# Altium schematic symbol library AnalogDevices.SchLib: 130 symbols (part 3 of 5)
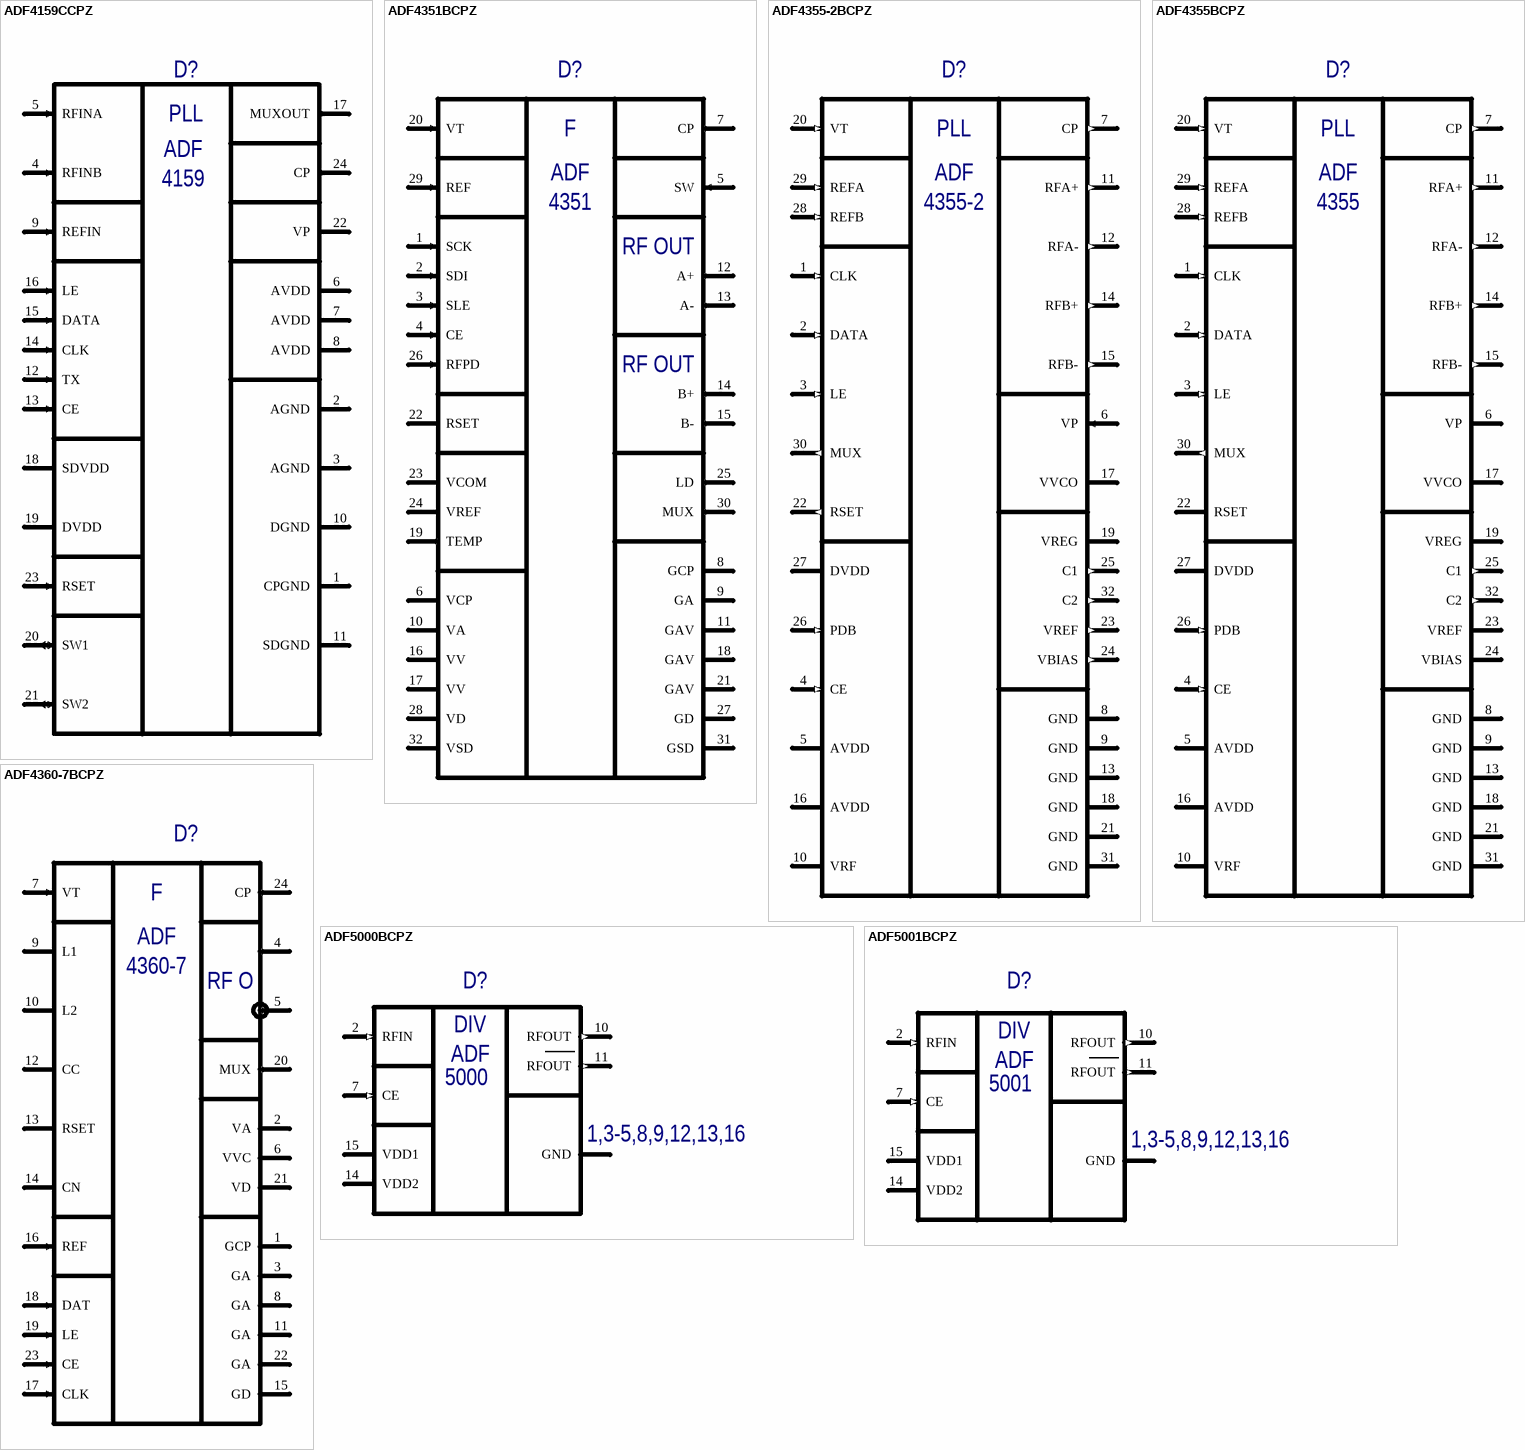
[diagram p23: symbols ADF4159CCPZ to ADF5001BCPZ]

## ADF4159CCPZ
designator D?  (value not drawn)
13 GHz, Fractional-N Frequency Synthesizer; Manufacturer: Analog Devices; Type: Микросхема; SymAuthor: Юдин Д.Г.; BCPId: *; Package: CP-24-10; ManufacturerPartNumber: ADF4159CCPZ
footprint QFN50P400X400X100-25N (QFN, 24-Leads, Body 4,00x4,00mm, Pitch 0,50mm, Thermal Pad 2.45x2.45mm, IPC Medium Density)
pins: 1 CPGND (power) "CP GND", 2 AGND (power) "Analog GND", 3 AGND (power) "Analog GND", 4 RFINB (in), 5 RFINA (in), 6 AVDD (power) "Analog Power Supply", 7 AVDD (power) "Analog Power Supply", 8 AVDD (power) "Analog Power Supply", 9 REFIN (in) "Reference Input. This is a CMOS input with a nominal threshold of DVDD/2 and a dc equivalent input   resistance of 100 kΩ", 10 DGND (power) "Digital GND", 11 SDGND (power) "SD GND", 12 TX (in) "TX data", 13 CE (in) "Chip enable", 14 CLK (in) "Serial Clock Input", 15 DATA (in) "Serial Data Input", 16 LE (in) "Load Enable", 17 MUXOUT (out) "This multiplexer output allows either the lock detect, the scaled RF, or the scaled reference frequency to be   accessed externally.", 18 SDVDD (power) "SDVdd", 19 DVDD (power) "Digital Power Supply", 20 SW1 (io) "Switches for Fast Lock", 21 SW2 (io) "Switches for Fast Lock", 22 VP (power) "Charge Pump Power Supply.", 23 RSET (in) "Rset", 24 CP (out) "Charge Pump Output. When enabled, this provides ±ICP to the external loop filter, which in turn drives the   external VCO.", EPAD (power) hidden to GND "Exposed Pad. The exposed pad must be connected to GND."
text: PLL; ADF; 4159

## ADF4351BCPZ
designator D?  (value not drawn)
Wideband Synthesizer with Integrated VCO; Manufacturer: Analog Devices; Type: Микросхема; BCPId: *; Name: *; Package: CP-32-2; ManufacturerPartNumber: ADF4351BCPZ; HelpURL: *; Price: *; Rem: *; TU/GOST: *
footprint QFN50P500X500X100-32N+325x325 (QFN, 32-Leads, Body 5,0x5,0mm (max), Pitch 0,50mm, IPC Medium Density with thermal tab 3.25x3.25)
pins: 1 SCK (in) "Serial Clock Signal", 2 SDI (in) "Serial Data In", 3 SLE (in) "Load Enable", 4 CE (in) "Chip Enable", 5 SW (in) "Fast Lock Switch", 6 VCP (power) "Charge Pump Power Supply", 7 CP (out) "Charge Pump Output", 8 GCP (power) "Charge Pump Ground", 9 GA (power) "Analog Ground", 10 VA (power) "Analog Power Supply", 11 GAV (power) "VCO Analog Ground", 12 A+ (out) "VCO Output", 13 A- (out) "VCO Output", 14 B+ (out) "Auxiliary VCO Output", 15 B- (out) "Auxiliary VCO Output", 16 VV (power) "Power Supply for the VCO", 17 VV (power) "Power Supply for the VCO", 18 GAV (power) "VCO Analog Ground", 19 TEMP (out) "Temperature Compensation Output", 20 VT (in) "Control Input to the VCO", 21 GAV (power) "VCO Analog Ground", 22 RSET "Connecting a resistor between this pin and ground sets the charge pump output current", 23 VCOM "Internal Compensation Node", 24 VREF "Reference Voltage", 25 LD (out) "Lock Detect Output Pin", 26 RFPD (in) "RF Power-Down", 27 GD (power) "Digital Ground", 28 VD (power) "Digital Power Supply", 29 REF (in) "Reference Input", 30 MUX (out) "Multiplexer Output", 31 GSD (power) "Digital sigma-delta modulator ground", 32 VSD (power) "Power Supply Pin for the Digital sigma-delta Modulator", EPAD GND (power) hidden to GND "The exposed die pad must be connected to GND"
text: F; ADF; 4351; RF OUT

## ADF4355-2BCPZ
designator D?  (value not drawn)
Wideband Synthesizer with Integrated VCO 54 MHz to 4400 MHz; Manufacturer: Analog Devices; Type: Микросхема; SymAuthor: Гордиенко А.; BCPId: *; Name: *; Package: CP-32-12; ManufacturerPartNumber: ADF4355-2BCPZ; HelpURL: *; Price: *; Rem: *; TU/GOST: *
footprint QFN50P500X500X80-33N (QFN, 32-Leads, Body 5,00x5,00mm, Pitch 0,50mm, Thermal Pad 3,75x3,75mm, IPC Medium Density)
pins: 1 CLK (in) "Serial Clock Input", 2 DATA (in) "Serial Data Input", 3 LE (in) "Load Enable, CMOS Input", 4 CE (in) "Chip Enable", 5 AVDD (power) "Analog Power Supply", 6 VP (in) "Charge Pump Power Supply", 7 CP (out) "Charge Pump Output", 8 GND (power) "Charge Pump Ground", 9 GND (power) "Analog Ground", 10 VRF (power) "Power Supply for the RF Output", 11 RFA+ (out) "VCO Output", 12 RFA- (out) "Complementary VCO Output", 13 GND (power) "RF Output Stage Ground", 14 RFB+ (out) "Auxiliary VCO Output", 15 RFB- (out) "Complementary Auxiliary VCO Output", 16 AVDD (power) "Analog Power Supply", 17 VVCO (power) "Power Supply for the VCO", 18 GND (power) "VCO Ground", 19 VREG "VCO Compensation Node", 20 VT (in) "Control Input to the VCO", 21 GND (power) "VCO Ground", 22 RSET (out) "Bias Current Resistor", 23 VREF (out) "Internal Compensation Node", 24 VBIAS (out) "Reference Voltage", 25 C1 (out) "Outputs from the LDO Regulator", 26 PDB (in) "RF Power-Down", 27 DVDD (power) "Digital Power Supply", 28 REFB (in) "Complementary Reference Input", 29 REFA (in) "Reference Input", 30 MUX (out) "Multiplexer Output", 31 GND (power) "Digital Σ-Δ Modulator Ground", 32 C2 (out) "Outputs from the LDO Regulator", EPAD GND (power) hidden to GND "Exposed Pad"
text: PLL; ADF; 4355-2

## ADF4355BCPZ
designator D?  (value not drawn)
Wideband Synthesizer with Integrated VCO 54 MHz to 6800 MHz; Manufacturer: Analog Devices; Type: Микросхема; BCPId: *; Name: *; Package: CP-32-12; ManufacturerPartNumber: ADF4355BCPZ; HelpURL: *; Price: *; Rem: *; TU/GOST: *
footprint QFN50P500X500X80-33N (QFN, 32-Leads, Body 5,00x5,00mm, Pitch 0,50mm, Thermal Pad 3,75x3,75mm, IPC Medium Density)
pins: 1 CLK (in) "Serial Clock Input", 2 DATA (in) "Serial Data Input", 3 LE (in) "Load Enable, CMOS Input", 4 CE (in) "Chip Enable", 5 AVDD (power) "Analog Power Supply", 6 VP (power) "Charge Pump Power Supply", 7 CP (out) "Charge Pump Output", 8 GND (power) "Charge Pump Ground", 9 GND (power) "Analog Ground", 10 VRF (power) "Power Supply for the RF Output", 11 RFA+ (out) "VCO Output", 12 RFA- (out) "Complementary VCO Output", 13 GND (power) "RF Output Stage Ground", 14 RFB+ (out) "Auxiliary VCO Output", 15 RFB- (out) "Complementary Auxiliary VCO Output", 16 AVDD (power) "Analog Power Supply", 17 VVCO (power) "Power Supply for the VCO", 18 GND (power) "VCO Ground", 19 VREG "VCO Compensation Node", 20 VT (in) "Control Input to the VCO", 21 GND (power) "VCO Ground", 22 RSET "Bias Current Resistor", 23 VREF "Internal Compensation Node", 24 VBIAS "Reference Voltage", 25 C1 (out) "Outputs from the LDO Regulator", 26 PDB (in) "RF Power-Down", 27 DVDD (power) "Digital Power Supply", 28 REFB (in) "Complementary Reference Input", 29 REFA (in) "Reference Input", 30 MUX (out) "Multiplexer Output", 31 GND (power) "Digital Σ-Δ Modulator Ground", 32 C2 (out) "Outputs from the LDO Regulator", EPAD GND (power) hidden to GND "Exposed Pad"
text: PLL; ADF; 4355

## ADF4360-7BCPZ
designator D?  (value not drawn)
Wideband Synthesizer with Integrated VCO; Manufacturer: Analog Devices; Type: Микросхема; BCPId: *; Name: *; Package: CP-24-2; ManufacturerPartNumber: ADF4360-7BCPZ; HelpURL: *; Price: *; Rem: *; TU/GOST: *
footprint QFN50P400X400X100-25N (QFN, 24-Leads, Body 4,00x4,00mm, Pitch 0,50mm, Thermal Pad 0,30x0,90mm, IPC Medium Density)
pins: 1 GCP (power) "Charge Pump Ground", 2 VA (power) "Analog Power Supply", 3 GA (power) "Analog Ground", 4 A (out) "VCO Output", 5 B (out) "VCO Complementary Output", 6 VVC (power) "Power Supply for the VCO", 7 VT (in) "Control Input to the VCO", 8 GA (power) "VCO Analog Ground", 9 L1 "An external inductor", 10 L2 "An external inductor", 11 GA (power) "Analog Ground", 12 CC "Internal Compensation Node", 13 RSET "Charge pump output current Rset", 14 CN "Internal Compensation Node", 15 GD (power) "Digital Ground", 16 REF (in) "Reference Input", 17 CLK (in) "Serial Clock Signal", 18 DAT (in) "Serial Data In", 19 LE (in) "Load Enable", 20 MUX (out) "Multiplexer Output", 21 VD (power) "Digital Power Supply", 22 GA (power) "Analog Ground", 23 CE (in) "Chip Enable", 24 CP (out) "Charge Pump Output", EPAD GND (power) hidden to GND "The exposed die pad must be connected to GND"
text: F; ADF; 4360-7; RF O

## ADF5000BCPZ
designator D?  (value not drawn)
4 GHz to 18 GHz   Divide-by-2 Prescaler; Manufacturer*: Analog Devices; Type: Микросхема; BCPId: *; ManufacturerPartNumber: ADF5000BCPZ; Package: CP-16-18
footprint QFN50P300X300X80_HS160x160-17N (QFN, 16-Leads, Body 3,00x3,00mm, Pitch 0,50mm, Thermal Pad 1,60x1,60mm, IPC Medium Density)
pins: 1 GND (power), 2 RFIN (in) "RF input", 3 GND (power) hidden to GND, 4 GND (power) hidden to GND, 5 GND (power) hidden to GND, 6 NC hidden, 7 CE (in) "Chip Enable", 8 GND (power) hidden to GND, 9 GND (power) hidden to GND, 10 RFOUT (out) "Divided output", 11 RFOUT (out) "Divided output 180°", 12 GND (power) hidden to GND, 13 GND (power) hidden to GND, 14 VDD2 (power) "VDD", 15 VDD1 (power) "VDD", 16 GND (power) hidden to GND, EPAD GND (power) hidden to GND "Ground paddle"
text: DIV; ADF; 5000; 1,3-5,8,9,12,13,16

## ADF5001BCPZ
designator D?  (value not drawn)
4 GHz to 18 GHz Divide-by-4 Prescaler; Manufacturer: Analog Devices; Type: Микросхема; BCPId: *; ManufacturerPartNumber: ADF5001BCPZ; Name: *; Package: CP-16-18
footprint QFN50P300X300X80_HS160x160-17N (QFN, 16-Leads, Body 3,00x3,00mm, Pitch 0,50mm, Thermal Pad 1,60x1,60mm, IPC Medium Density)
pins: 1 GND (power), 2 RFIN (in) "RF input", 6 NC (in) hidden "No Connect. This pin can be left unconnected.", 7 CE (in) "Chip Enable", 10 RFOUT (out) "Divided output", 11 RFOUT (out) "Divided output 180°", 14 VDD2 (power) "VDD", 15 VDD1 (power) "VDD", EPAD (power) hidden to GND
text: DIV; ADF; 5001; 1,3-5,8,9,12,13,16

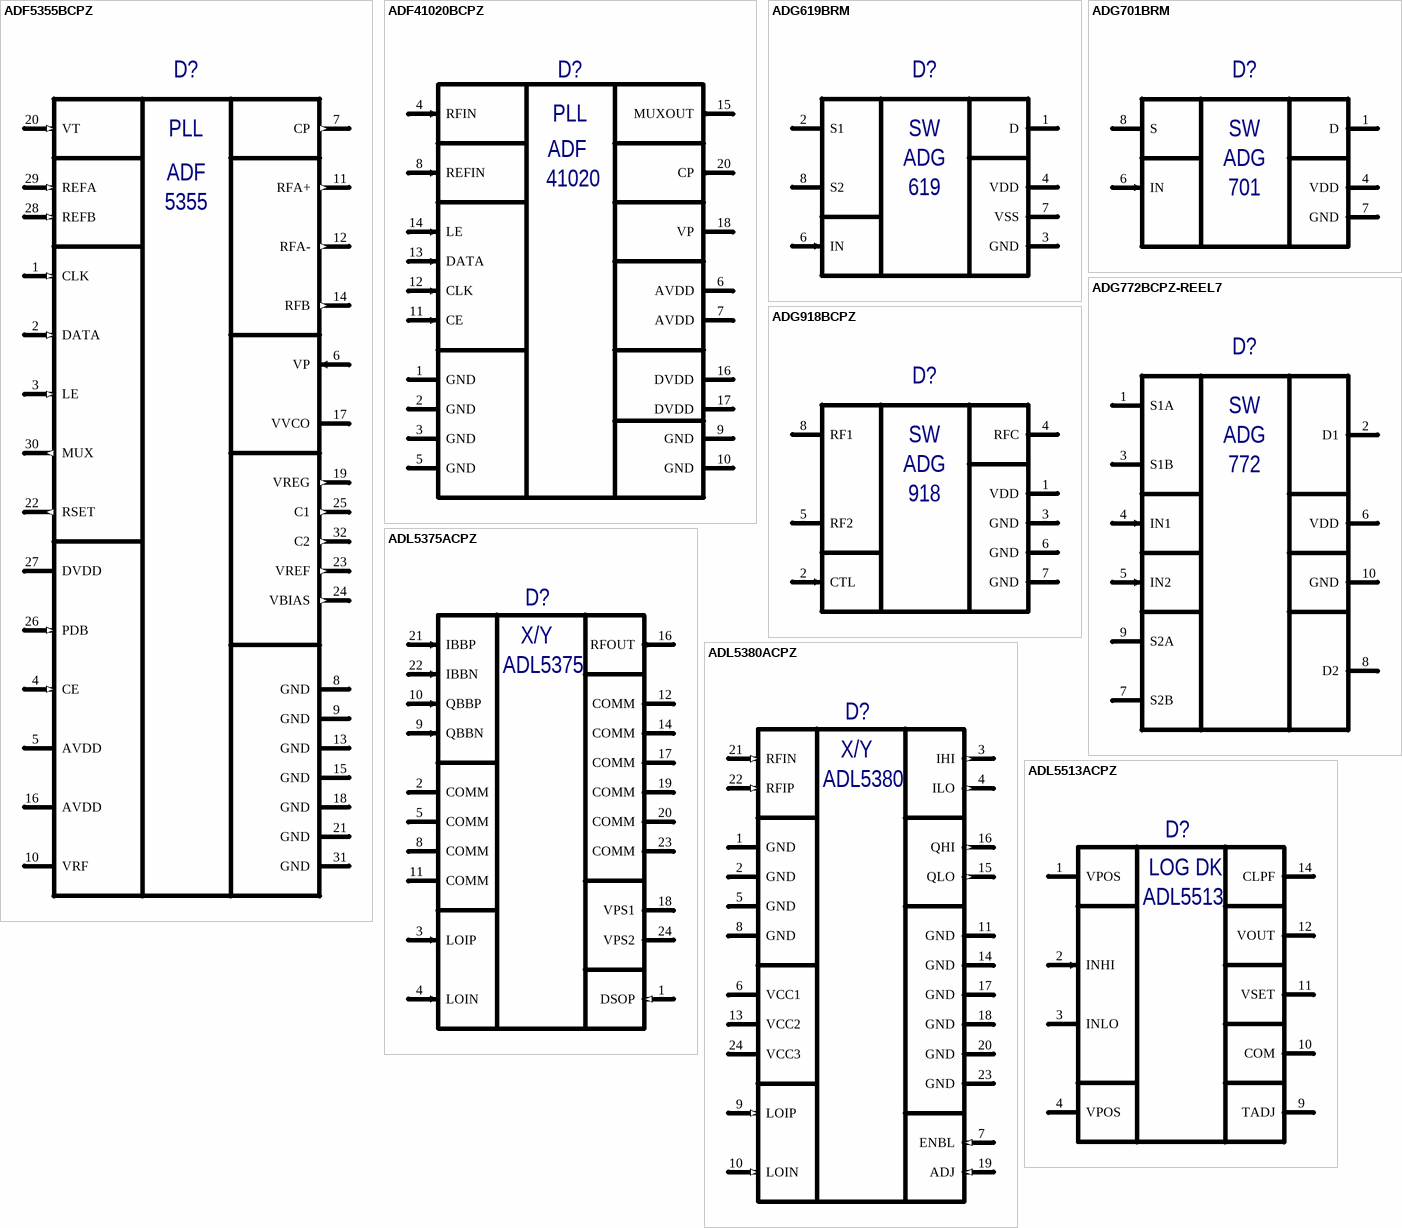
[diagram p11: symbols ADF5355BCPZ to ADL5513ACPZ]

## ADF5355BCPZ
designator D?  (value not drawn)
Microwave Wideband Synthesizer   with Integrated VCO 54 MHz to 13600 MHz; Manufacturer: Analog Devices; Type: Микросхема; BCPId: *; Name: *; Package: CP-32-12; ManufacturerPartNumber: ADF5355BCPZ; HelpURL: *; Price: *; Rem: *; TU/GOST: *
footprint QFN50P500X500X80-33N (QFN, 32-Leads, Body 5,00x5,00mm, Pitch 0,50mm, Thermal Pad 3,75x3,75mm, IPC Medium Density)
pins: 1 CLK (in) "Serial Clock Input", 2 DATA (in) "Serial Data Input", 3 LE (in) "Load Enable, CMOS Input", 4 CE (in) "Chip Enable", 5 AVDD (power) "Analog Power Supply", 6 VP (in) "Charge Pump Power Supply", 7 CP (out) "Charge Pump Output", 8 GND (power) "Charge Pump Ground", 9 GND (power) "Analog Ground", 10 VRF (power) "Power Supply for the RF Output", 11 RFA+ (out) "VCO Output", 12 RFA- (out) "Complementary VCO Output", 13 GND (power) "RF Output Stage Ground", 14 RFB (out) "Auxiliary VCO Output", 15 GND (power) "RF Output Stage Ground", 16 AVDD (power) "Analog Power Supply", 17 VVCO (power) "Power Supply for the VCO", 18 GND (power) "VCO Ground", 19 VREG (out) "VCO Compensation Node", 20 VT (in) "Control Input to the VCO", 21 GND (power) "VCO Ground", 22 RSET (out) "Bias Current Resistor", 23 VREF (out) "Internal Compensation Node", 24 VBIAS (out) "Reference Voltage", 25 C1 (out) "Outputs from the LDO Regulator", 26 PDB (in) "RF Power-Down", 27 DVDD (power) "Digital Power Supply", 28 REFB (in) "Complementary Reference Input", 29 REFA (in) "Reference Input", 30 MUX (out) "Multiplexer Output", 31 GND (power) "Digital Σ-Δ Modulator Ground", 32 C2 (out) "Outputs from the LDO Regulator", EPAD GND (power) hidden to GND "Exposed Pad"
text: PLL; ADF; 5355

## ADF41020BCPZ
designator D?  (value not drawn)
18 GHz Microwave PLL Synthesizer; Manufacturer: Analog Devices; Type: Микросхема; BCPId: *; Name: *; Package: CP-20-6; ManufacturerPartNumber: ADF41020BCPZ
footprint QFN50P400X400X100-20N (QFN, 20-Leads, Body 4,0x4,0mm (max), Pitch 0,50mm, IPC Medium Density)
pins: 1 GND (power) "Ground Pins", 2 GND (power) "Ground Pins", 3 GND (power) "Ground Pins", 4 RFIN (in) "Input to the RF Prescaler. This input is ac-coupled internally.", 5 GND (power) "Ground Pins", 6 AVDD (power) "Analog Power Supply", 7 AVDD (power) "Analog Power Supply", 8 REFIN (in) "Reference Input. This is a CMOS input with a nominal threshold of DVDD/2 and a dc equivalent input   resistance of 100 kΩ", 9 GND (power) "Ground Pins", 10 GND (power) "Ground Pins", 11 CE (in) "Chip Enable", 12 CLK (in) "Serial Clock Input", 13 DATA (in) "Serial Data Input", 14 LE (in) "Load Enable", 15 MUXOUT (out) "This multiplexer output allows either the lock detect, the scaled RF, or the scaled reference frequency to be   accessed externally.", 16 DVDD (power) "Digital Power Supply", 17 DVDD (power) "Digital Power Supply", 18 VP (power) "Charge Pump Power Supply.", 20 CP (out) "Charge Pump Output. When enabled, this provides ±ICP to the external loop filter, which in turn drives the   external VCO.", EPAD (power) hidden to GND "Exposed Pad. The exposed pad must be connected to GND."
text: PLL; ADF; 41020

## ADG619BRM
designator D?  (value not drawn)
Single SPDT Switch; Manufacturer: Analog Devices; Type: Микросхема; BCPId: *; Name: *; Package: RM-8; ManufacturerPartNumber: ADG619BRM
footprint TSOP65P490X110-8N (Shrink Small Outline; 8 Leads; Body Width 3 mm; Pitch 0.65 mm)
pins: 1 D, 2 S1, 3 GND (power), 4 VDD (power), 6 IN (in), 7 VSS (power), 8 S2
text: SW; ADG; 619

## ADG701BRM
designator D?  (value not drawn)
Single SPST Switch; Manufacturer: Analog Devices; Type: Микросхема; BCPId: *; Name: *; Package: RM-8; ManufacturerPartNumber: ADG701BRM
footprint TSOP65P490X110-8N (Shrink Small Outline; 8 Leads; Body Width 3 mm; Pitch 0.65 mm)
pins: 1 D "Drain Terminal. Can be an input or output.", 4 VDD (power) "Most Positive Power Supply Potential.", 6 IN (in) "Logic Control Input.", 7 GND (power) "Ground (0 V) Reference.", 8 S "Source Terminal. Can be an input or output."
text: SW; ADG; 701

## ADG772BCPZ-REEL7
designator D?  (value not drawn)
Single SPST Switch; Manufacturer: Analog Devices; Type: Микросхема; BCPId: *; Name: *; Package: CP-10-10; ManufacturerPartNumber: ADG772BCPZ-REEL7
footprint QFN40P130X160X60-10N (QFN, 10-Leads, Body 1,30x1,60mm, Pitch 0,40mm, IPC Medium Density)
pins: 1 S1A "Source Terminal. Can be an input or output.", 2 D1 "Drain Terminal. Can be an input or output.", 3 S1B "Source Terminal. Can be an input or output.", 4 IN1 (in) "Logic Control Input.", 5 IN2 (in) "Logic Control Input.", 6 VDD (power) "Most Positive Power Supply Potential.", 7 S2B "Source Terminal. Can be an input or output.", 8 D2 "Drain Terminal. Can be an input or output.", 9 S2A "Source Terminal. Can be an input or output.", 10 GND (power) "Ground (0 V) Reference."
text: SW; ADG; 772

## ADG918BCPZ
designator D?  (value not drawn)
Wideband 4 GHz 2:1 Mux/SPDT; Manufacturer: Analog Devices; Type: Микросхема; BCPId: *; Name: *; Package: CP-8-2; ManufacturerPartNumber: ADG918BCPZ
footprint SON50P300X300X90-9N (SON, 8-Leads, Body 3,0x3,0mm (max), Pitch 0,50mm, IPC Medium Density)
pins: 1 VDD (power) "VDD +1.65...2.75 V Power supply", 2 CTL (in) "Logic control input", 3 GND (power), 4 RFC "COMMON RF Port for Switch", 5 RF2 "RF2 port", 6 GND (power), 7 GND (power), 8 RF1 "RF1 port", 9 GND hidden to GND
text: SW; ADG; 918

## ADL5375ACPZ
designator D?  (value not drawn)
400 MHz to 6 GHz Broadband Quadrature Modulator; Manufacturer: Analog Devices; Type: Микросхема; BCPId: *; Name: *; Package: CP-24-3; ManufacturerPartNumber: ADL5375ACPZ; HelpURL: *; Price: *; Rem: *; TU/GOST: *
footprint QFN50P400X400X100_HS280x280-25N (QFN, 24-Leads, Body 4,00x4,00mm, Pitch 0,50mm, Thermal Pad 2,80x2,80mm, IPC Medium Density)
pins: 1 DSOP (in), 2 COMM (power) "Input Common Pins. Connect to ground", 3 LOIP (in) "Local Oscillator Input", 4 LOIN (in) "Local Oscillator Input", 5 COMM (power) "Input Common Pins. Connect to ground", 8 COMM (power) "Input Common Pins. Connect to ground", 9 QBBN (in) "Differential In-Phase and Quadrature Baseband Inputs", 10 QBBP (in) "Differential In-Phase and Quadrature Baseband Inputs", 11 COMM (power) "Input Common Pins. Connect to ground", 12 COMM (power) "Input Common Pins. Connect to ground", 14 COMM (power) "Input Common Pins. Connect to ground", 16 RFOUT (out) "Device Output", 17 COMM (power) "Input Common Pins. Connect to ground", 18 VPS1 (power) "Positive Supply Voltage Pins", 19 COMM (power) "Input Common Pins. Connect to ground", 20 COMM (power) "Input Common Pins. Connect to ground", 21 IBBP (in) "Differential In-Phase and Quadrature Baseband Inputs", 22 IBBN (in) "Differential In-Phase and Quadrature Baseband Inputs", 23 COMM (power) "Input Common Pins. Connect to ground", 24 VPS2 (power) "Positive Supply Voltage Pins", EPAD (power) hidden to GND
text: X/Y; ADL5375

## ADL5380ACPZ
designator D?  (value not drawn)
400 MHz to 6 GHz Quadrature Demodulator; Manufacturer: Analog Devices; Type: Микросхема; BCPId: *; Name: *; Package: CP-24-7; ManufacturerPartNumber: ADL5380ACPZ; HelpURL: *; Price: *; Rem: *; TU/GOST: *
footprint QFN50P400X400X80_HS-25N (QFN, 24-Leads, Body 4,00x4,00mm, Pitch 0,50mm, Thermal Pad 2,75x2,75mm, IPC Medium Density)
pins: 1 GND (power), 2 GND (power), 3 IHI (out) "I Channel Mixer Baseband Output", 4 ILO (out) "I Channel Mixer Baseband Output", 5 GND (power), 6 VCC1 (power) "Positive Supply", 7 ENBL (in) "Enable Control", 8 GND (power), 9 LOIP (in) "Local Oscillator Input", 10 LOIN (in) "Local Oscillator Input", 11 GND (power), 12 NC hidden "No Connect", 13 VCC2 (power) "Positive Supply", 14 GND (power), 15 QLO (out) "Q Channel Mixer Baseband Output", 16 QHI (out) "Q Channel Mixer Baseband Output", 17 GND (power), 18 GND (power), 19 ADJ (in) "A resistor to Vs", 20 GND (power), 21 RFIN (in) "RF Input", 22 RFIP (in) "RF Input", 23 GND (power), 24 VCC3 (power) "Positive Supply", EPAD (power) hidden to GND
text: X/Y; ADL5380

## ADL5513ACPZ
designator D?  (value not drawn)
1 MHz to 4 GHz, 80 dB Logarithmic Detector/Controller; Manufacturer: Analog Devices; Type: Микросхема; BCPId: *; Name: *; Package: CP-16-3; ManufacturerPartNumber: ADL5513ACPZ; HelpURL: *; Price: *; Rem: *; TU/GOST: *
footprint QFN50P300X300X90_HS165x165-17N (QFN, 16-Leads, Body 3,00x3,00mm, Pitch 0,50mm, Thermal Pad 1,65x1,65mm, IPC Medium Density)
pins: 1 VPOS (power) "Positive Supply Voltage, 2.7 V to 5.5 V", 2 INHI (in) "RF Input. AC-coupled RF input", 3 INLO (power) "RF Common for INHI. AC-coupled RF common", 4 VPOS (power) "Positive Supply Voltage, 2.7 V to 5.5 V", 5 NC (power) hidden to GND "No Connect", 6 NC (power) hidden to GND "No Connect", 7 NC (power) hidden to GND "No Connect", 8 NC (power) hidden to GND "No Connect", 9 TADJ (power) "Temperature Compensation Adjustment", 10 COM (power), 11 VSET (power) "Setpoint Input for Operation in Controller Mode", 12 VOUT (power) "Logarithmic/Error Output", 13 NC (power) hidden to GND "No Connect", 14 CLPF "Loop Filter Capacitor Pin", 15 NC (power) hidden to GND "No Connect", 16 NC (power) hidden to GND "No Connect", EPAD GND (power) hidden to GND "Ground Paddle"
text: LOG DK; ADL5513

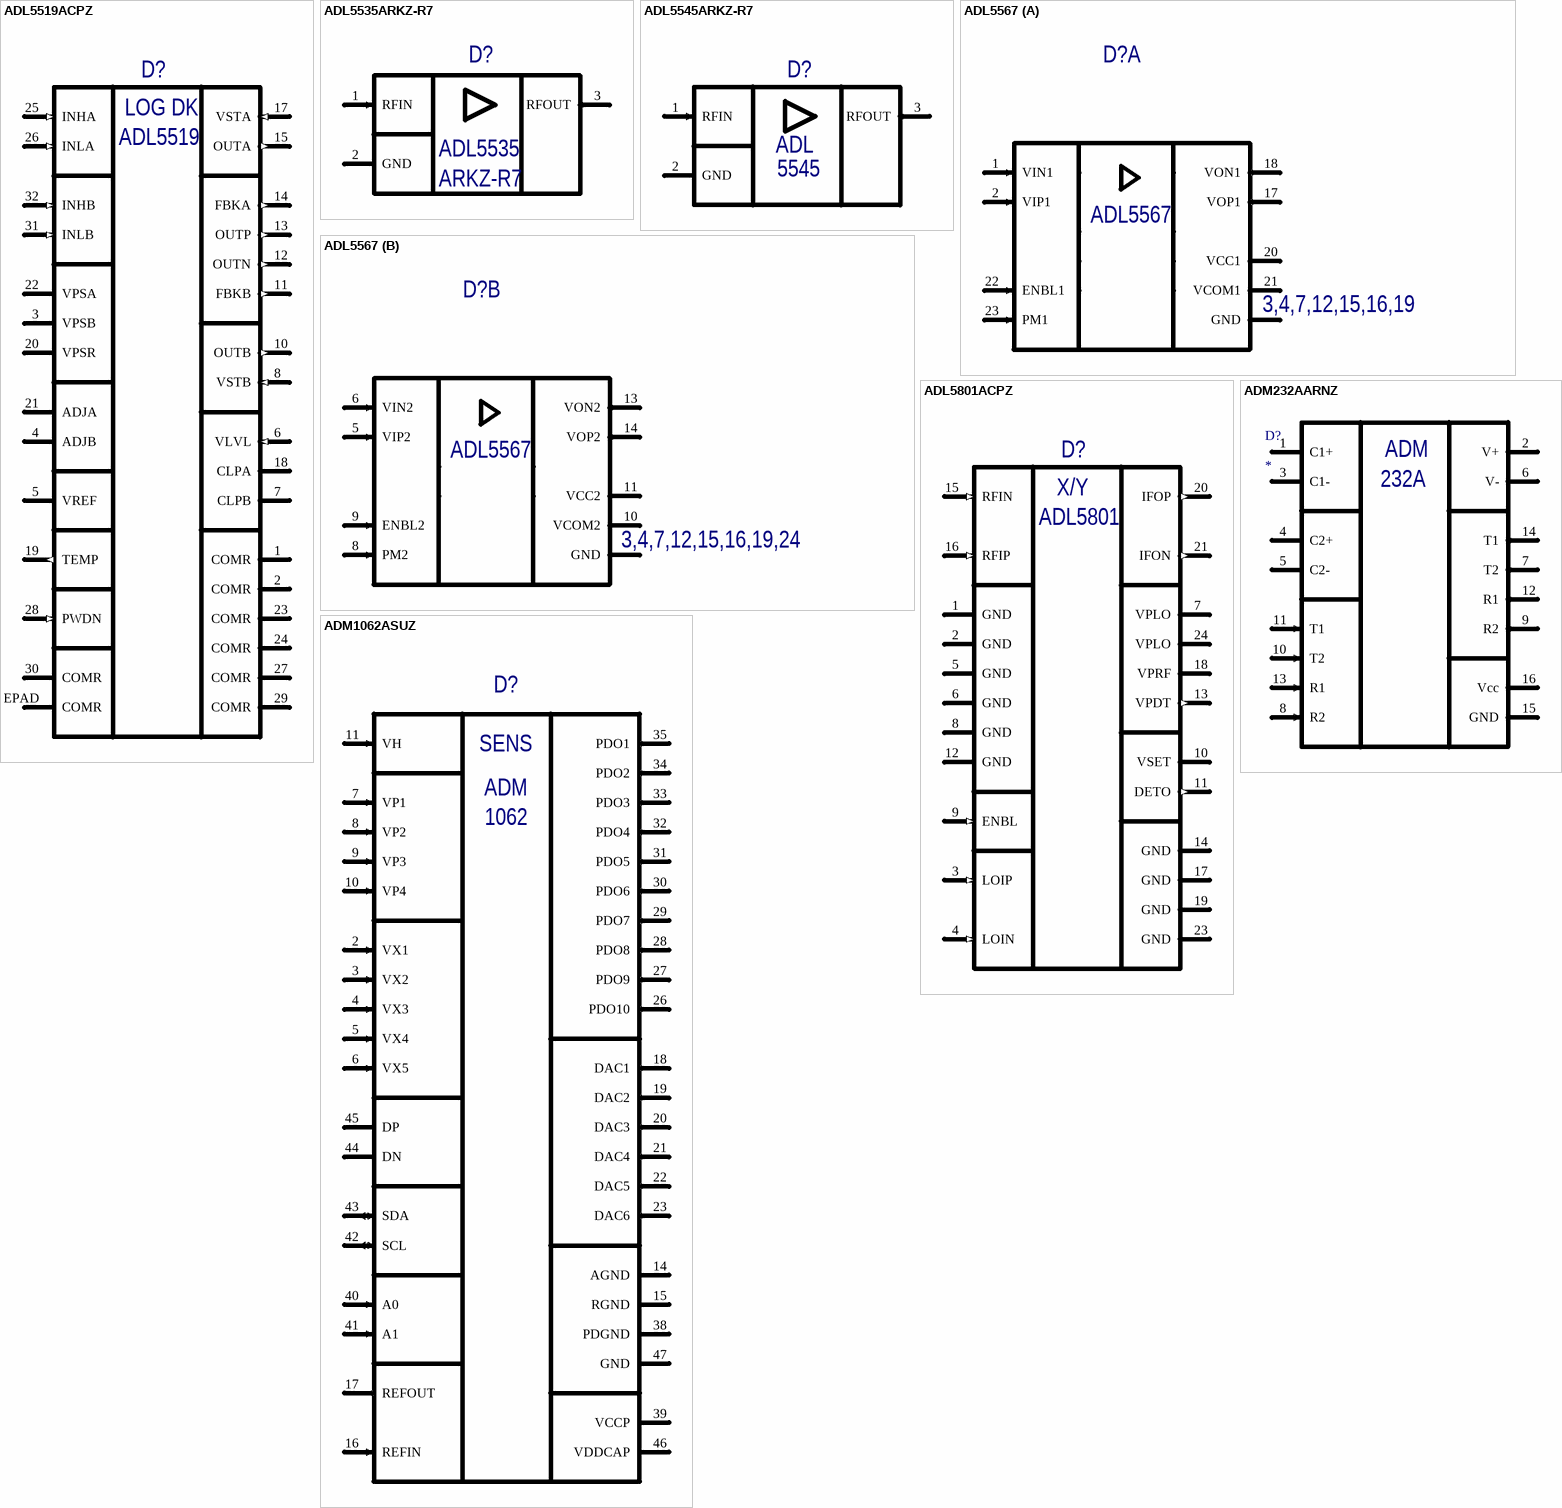
[diagram p12: symbols ADL5519ACPZ to ADM1062ASUZ]

## ADL5519ACPZ
designator D?  (value not drawn)
1 MHz to 10 GHz, 62 dB Dual Log  Detector/Controller; Manufacturer: Analog Devices; Type: Микросхема; SymAuthor: Блохин В.А.; BCPId: *; Name: *; Package: LFCSP 5*5 (CP-32-21); ManufacturerPartNumber: ADL5519ACPZ; HelpURL: *; Price: *; Rem: *; TU/GOST: *
footprint QFN50P500X500X80_HS270X270-33N (QFN, 32-Leads, Body 5,00x5,00mm, Pitch 0,50mm, Thermal Pad 2,70x2,70mm, IPC Medium Density)
pins: 1 COMR (power) "Connect via low impedance to common.", 2 COMR (power) "Connect via low impedance to common.", 3 VPSB (power) "Positive Supply for Channel B", 4 ADJB (power) "Temperature Adjust Pin for Channel B and Power-Down Interface for OUTB", 5 VREF (power) "Voltage Reference", 6 VLVL (in) "DC Common-Mode Adjust for Difference Output", 7 CLPB "Loop Filter Pin for Channel B", 8 VSTB (in) "Setpoint Control Input for Channel B", 9 NC hidden to GND "No Connect", 10 OUTB (out) "Output Voltage for Channel B", 11 FBKB (out) "Difference Op Amp Feedback Pin for OUTN Op Amp", 12 OUTN (out) "Difference Output", 13 OUTP (out) "Difference Output", 14 FBKA (out) "Difference Op Amp Feedback Pin for OUTP Op Amp", 15 OUTA (out) "Output Voltage for Channel A", 16 NC hidden to GND "No Connect", 17 VSTA (in) "Setpoint Control Input for Channel A", 18 CLPA "Loop Filter Pin for Channel A", 19 TEMP (out) "Temperature Sensor Output", 20 VPSR "Positive Supply for Difference Outputs and Temperature Sensor", 21 ADJA (power) "Temperature Adjust Pin for Channel A and Power-Down Interface for OUTA", 22 VPSA (power) "Positive Supply for Channel A. Apply 3.3 V to 5.5 V supply voltage", 23 COMR (power) "Connect via low impedance to common.", 24 COMR (power) "Connect via low impedance to common.", 25 INHA (in) "AC-Coupled RF Input for Channel A", 26 INLA (in) "AC-Coupled RF Common for Channel A", 27 COMR (power) "Connect via low impedance to common.", 28 PWDN (in) "Power-Down for Difference Output and Temperature Sensor", 29 COMR (power) "Connect via low impedance to common.", 30 COMR (power) "Connect via low impedance to common.", 31 INLB (in) "AC-Coupled RF Common for Channel B", 32 INHB (in) "AC-Coupled RF Input for Channel B", EPAD COMR (power) "Internally connected to COMR"
text: LOG DK

## ADL5535ARKZ-R7
designator D?  (value not drawn)
20 MHz to 1.0 GHz IF Gain Block; Manufacturer: Mini-Circuits; Type: Микросхема; ManufacturerPartNumber: ADL5535ARKZ-R7; Package: SOT-89
footprint RK-3 (SOT89, 3-Leads, Body 4,60x2,60mm, Pitch 1,50mm, Lead Span 3,8mm, IPC Medium Density)
pins: 1 RFIN (in), 2 GND (power), 3 RFOUT (out)
text: ARKZ-R7

## ADL5545ARKZ-R7
designator D?  (value not drawn)
RF/IF Gain Block 0,03 to 6 GHz; Manufacturer: Analog Devices; Type: Микросхема; SymAuthor: Юрченко А.И.; Package: 3-Lead SOT-89; ManufacturerPartNumber: ADL5545ARKZ-R7
footprint RK-3 (SOT89, 3-Leads, Body 4,60x2,60mm, Pitch 1,50mm, Lead Span 3,8mm, IPC Medium Density)
pins: 1 RFIN (in), 2 GND (power), 3 RFOUT (out)
text: ADL; 5545

## ADL5567
designator D?, comment ADL5567ACPZN-R7  (value not drawn)
Ultrahigh Dynamic Range Dual Differential Amplifier; Manufacturer: Analog Devices; Type: Микросхема; SymAuthor: Пшеничный; BCPId: *; ManufacturerPartNumber: ADL5567ACPZN-R7; Rem: *; Package: CP-24-19; HelpURL: *; Price: *
footprint CP-24-19 (QFN, 24-Leads, Body 4,00x4,00mm, Pitch 0,50mm, Thermal Pad 2,10x2,10mm, IPC Medium Density)
pins on every part: 3 GND (power) hidden to GND, 4 GND (power) hidden to GND, 7 GND (power) hidden to GND, 12 GND (power) hidden to GND, 15 GND (power) hidden to GND, 16 GND (power) hidden to GND, 19 GND (power) hidden to GND, EP GND (power) "Exposed Pad."
part A pins: 1 VIN1 (in) "Negative Side of Balanced Differential Inputs for Amplifier 1", 2 VIP1 (in) "Positive Side of Balanced Differential Inputs for Amplifier 1", 17 VOP1 (out) "Positive Side of Balanced Differential Outputs for Amplifier 1", 18 VON1 (out) "Negative Side of Balanced Differential Outputs for Amplifier 1", 20 VCC1 (power) "Positive Supply for Amplifier 1", 21 VCOM1 (power) "Common-Mode Voltage", 22 ENBL1 (in) "Enable for Amplifier 1", 23 PM1 (in) "Power Mode Control for Amplifier 1"
part B pins: 5 VIP2 (in) "Positive Side of Balanced Differential Inputs for Amplifier 2", 6 VIN2 (in) "Negative Side of Balanced Differential Inputs for Amplifier 2", 8 PM2 (in) "Power Mode Control for Amplifier 2", 9 ENBL2 (in) "Enable for Amplifier 2", 10 VCOM2 (power) "Common-Mode Voltage", 11 VCC2 (power) "Positive Supply for Amplifier 2", 13 VON2 (out) "Negative Side of Balanced Differential Outputs for Amplifier 2", 14 VOP2 (out) "Positive Side of Balanced Differential Outputs for Amplifier 2", 24 GND (power) hidden to GND
part A text: 3,4,7,12,15,16,19
part B text: 3,4,7,12,15,16,19,24

## ADL5801ACPZ
designator D?  (value not drawn)
High IP3,   10 MHz to 6 GHz, Active Mixer; Manufacturer: Analog Devices; Type: Микросхема; BCPId: *; Name: *; Package: CP-24-3; ManufacturerPartNumber: ADL5801ACPZ; HelpURL: *; Price: *; Rem: *; TU/GOST: *
footprint QFN50P400X400X100-25N (QFN, 24-Leads, Body 4,00x4,00mm, Pitch 0,50mm, Thermal Pad 2.45x2.45mm, IPC Medium Density)
pins: 1 GND (power) "Device Common (DC Ground).", 2 GND (power) "Device Common (DC Ground).", 3 LOIP (in) "Local Oscillator Input", 4 LOIN (in) "Local Oscillator Input", 5 GND (power) "Device Common (DC Ground).", 6 GND (power) "Device Common (DC Ground).", 7 VPLO (power) "Positive Supply Voltage for LO System.", 8 GND (power) "Device Common (DC Ground).", 9 ENBL (in) "Detector and Mixer Bias Enable.", 10 VSET (power) "Input IP3 Bias Adjustment.", 11 DETO (out) "Detector Output.", 12 GND (power) "Device Common (DC Ground).", 13 VPDT (out) "Positive Supply Voltage for Detector.", 14 GND (power) "Device Common (DC Ground).", 15 RFIN (in) "Differential RF Input Terminal.", 16 RFIP (in) "Differential RF Input Terminal.", 17 GND (power) "Device Common (DC Ground).", 18 VPRF (power) "Positive Supply Voltage for RF Input System.", 19 GND (power) "Device Common (DC Ground).", 20 IFOP (out) "Differential IF Output Terminal.", 21 IFON (out) "Differential IF Output Terminal.", 22 NC hidden "Not Connected.", 23 GND (power) "Device Common (DC Ground).", 24 VPLO (power) "Positive Supply Voltage for LO System.", EPAD (power) hidden to GND
text: X/Y; ADL5801

## ADM232AARNZ
designator D?
High-Speed, 5 V , CMOS RS-232; ManufacturerPartNumber: ADM232AARNZ; Manufacturer: Analog Devices; Type: Микросхема; BCPId: *; Price: *; TU/GOST: *; Name: *; Rem: *; Package: R-16
footprint SOIC127P600X175-16N (SOIC, 16-Leads, Body 10,0x4,0mm (max), Pitch 1,27mm, IPC Medium Density)
pins: 1 C1+ "External capacitor 1", 2 V+ (power) "Internally generated positive supply", 3 C1- "External capacitor 1", 4 C2+ "External capacitor 2", 5 C2- "External capacitor 2", 6 V- (power) "Internally generated negative supply", 7 T2 (out) "Transmitter (Driver) Outputs. These are RS-232", 8 R2 (in) "Receiver Inputs. These inputs accept RS-232", 9 R2 (out) "Receiver Outputs. These are TTL/CMOS levels", 10 T2 (in) "Transmitter (Driver) Inputs. These inputs accept", 11 T1 (in) "Transmitter (Driver) Inputs. These inputs accept", 12 R1 (out) "Receiver Outputs. These are TTL/CMOS levels", 13 R1 (in) "Receiver Inputs. These inputs accept RS-232", 14 T1 (out) "Transmitter (Driver) Outputs. These are RS-232", 15 GND (power) "Ground Pin. Must be connected to 0 V", 16 Vcc (power) "Power Supply Input"
text: ADM; 232A

## ADM1062ASUZ
designator D?  (value not drawn)
Super Sequencer with Margining Control and Temperature Monitoring; Manufacturer: Analog Devices; Type: Микросхема; BCPId: *; Name: *; Package: TQFP-48; ManufacturerPartNumber: ADM1062ASUZ; HelpURL: *; Price: *; Rem: *; TU/GOST: *
footprint QFP50P900X900X105-48N (QFP, 48-Leads, Body 9,0x9,0mm (max), Pitch 0,50mm, IPC Medium Density)
pins: 1 NC hidden "No Connection", 2 VX1 (in) "High Impedance Inputs to Supply Fault Detectors", 3 VX2 (in) "High Impedance Inputs to Supply Fault Detectors", 4 VX3 (in) "High Impedance Inputs to Supply Fault Detectors", 5 VX4 (in) "High Impedance Inputs to Supply Fault Detectors", 6 VX5 (in) "High Impedance Inputs to Supply Fault Detectors", 7 VP1 (in) "Low Voltage Inputs to Supply Fault Detectors", 8 VP2 (in) "Low Voltage Inputs to Supply Fault Detectors", 9 VP3 (in) "Low Voltage Inputs to Supply Fault Detectors", 10 VP4 (in) "Low Voltage Inputs to Supply Fault Detectors", 11 VH (in) "High Voltage Input to Supply Fault Detectors", 12 NC hidden "No Connection", 13 NC hidden "No Connection", 14 AGND (power) "Ground Return for Input Attenuators", 15 RGND (power) "Ground Return for On-Chip Reference Circuits", 16 REFIN (in) "Reference Input for ADC", 17 REFOUT (out) "Reference Output, 2.048 V. Typically connected to REFIN", 18 DAC1 (out) "Voltage Output DAC", 19 DAC2 (out) "Voltage Output DAC", 20 DAC3 (out) "Voltage Output DAC", 21 DAC4 (out) "Voltage Output DAC", 22 DAC5 (out) "Voltage Output DAC", 23 DAC6 (out) "Voltage Output DAC", 24 NC hidden "No Connection", 25 NC hidden "No Connection", 26 PDO10 (out) "Programmable Output Driver", 27 PDO9 (out) "Programmable Output Driver", 28 PDO8 (out) "Programmable Output Driver", 29 PDO7 (out) "Programmable Output Driver", 30 PDO6 (out) "Programmable Output Driver", 31 PDO5 (out) "Programmable Output Driver", 32 PDO4 (out) "Programmable Output Driver", 33 PDO3 (out) "Programmable Output Driver", 34 PDO2 (out) "Programmable Output Driver", 35 PDO1 (out) "Programmable Output Driver", 36 NC hidden "No Connection", 37 NC hidden "No Connection", 38 PDGND (power) "Ground Return for Output Drivers", 39 VCCP "Central Charge Pump Voltage of 5.25 V", 40 A0 (in) "Logic Input. SMBus interface address", 41 A1 (in) "Logic Input. SMBus interface address", 42 SCL (io) "SMBus Clock Pin", 43 SDA (io) "SMBus Data Pin", 44 DN "External Temperature Sensor Cathode Connection", 45 DP "External Temperature Sensor Anode Connection", 46 VDDCAP "Device Supply Voltage", 47 GND (power) "Supply Ground", 48 NC hidden "No Connection"
text: SENS; ADM; 1062

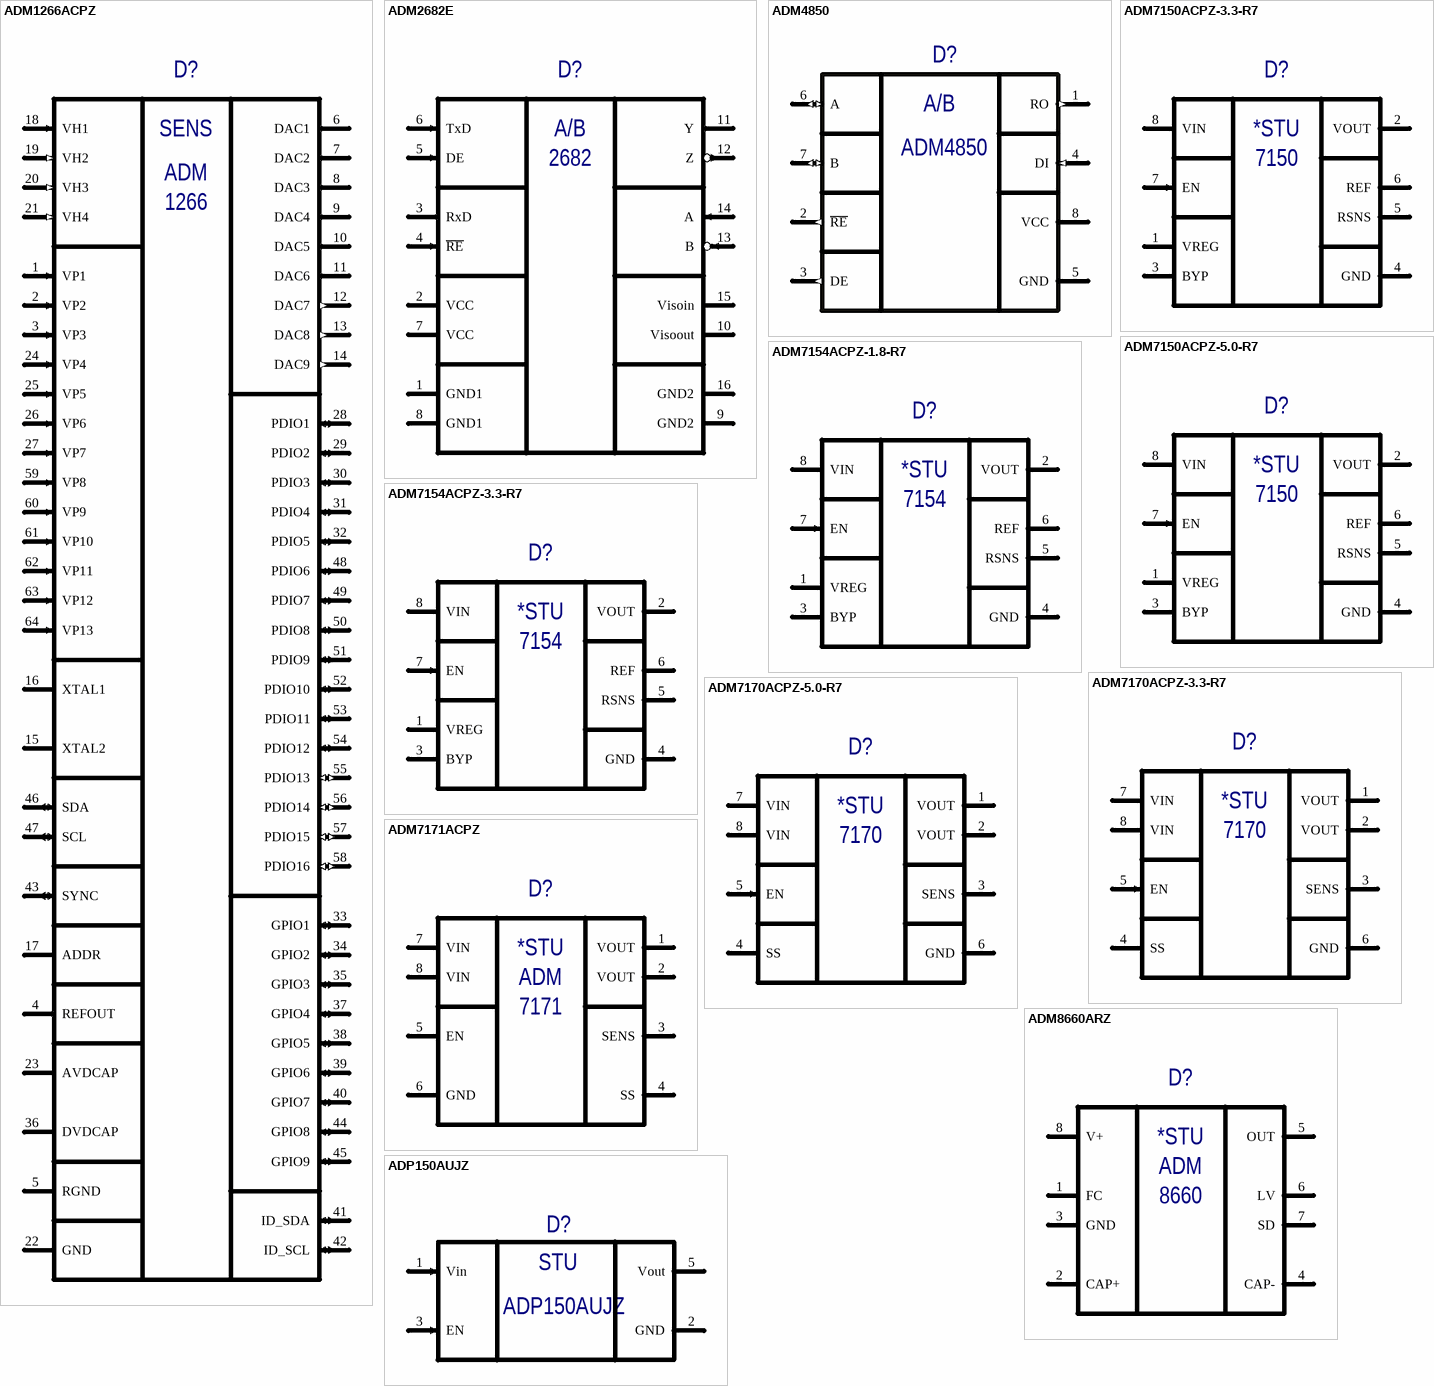
[diagram p13: symbols ADM1266ACPZ to ADP150AUJZ]

## ADM1266ACPZ
designator D?  (value not drawn)
Super Sequencer with Margining Control and Fault Monitoring; Manufacturer: Analog Devices; Type: Микросхема; BCPId: *; Package: CP-64-15; ManufacturerPartNumber: ADM1266ACPZ
footprint QFN50P900X900X80_HS-65N (QFN, 64-Leads, Body 9,00x9,00mm, Pitch 0,50mm, Thermal Pad 7,60x7,60mm, IPC Medium Density)
pins: 1 VP1 (in) "Low Voltage Inputs to Supply Fault Detectors", 2 VP2 (in) "Low Voltage Inputs to Supply Fault Detectors", 3 VP3 (in) "Low Voltage Inputs to Supply Fault Detectors", 4 REFOUT (out) "Reference Output. 2.2 μF capacitor", 5 RGND (power) "Ground Return for On-Chip Reference Circuits", 6 DAC1 (out) "Voltage Output DAC", 7 DAC2 (out) "Voltage Output DAC", 8 DAC3 (out) "Voltage Output DAC", 9 DAC4 (out) "Voltage Output DAC", 10 DAC5 (out) "Voltage Output DAC", 11 DAC6 (out) "Voltage Output DAC", 12 DAC7 (out) "Voltage Output DAC", 13 DAC8 (out) "Voltage Output DAC", 14 DAC9 (out) "Voltage Output DAC", 15 XTAL2 "Crystal Input 2", 16 XTAL1 "Crystal Input 1", 17 ADDR "PMBus Address Select Resistor", 18 VH1 (in) "High Voltage Input to Supply Fault Detectors", 19 VH2 (in) "High Voltage Input to Supply Fault Detectors", 20 VH3 (in) "High Voltage Input to Supply Fault Detectors", 21 VH4 (in) "High Voltage Input to Supply Fault Detectors", 22 GND (power) "Supply Ground", 23 AVDCAP "Analog Supply Voltage. A 68 µF  capacitor must be connected between this pin and GND", 24 VP4 (in) "Low Voltage Inputs to Supply Fault Detectors", 25 VP5 (in) "Low Voltage Inputs to Supply Fault Detectors", 26 VP6 (in) "Low Voltage Inputs to Supply Fault Detectors", 27 VP7 (in) "Low Voltage Inputs to Supply Fault Detectors", 28 PDIO1 (io) "Programmable Driver Input/Output", 29 PDIO2 (io) "Programmable Driver Input/Output", 30 PDIO3 (io) "Programmable Driver Input/Output", 31 PDIO4 (io) "Programmable Driver Input/Output", 32 PDIO5 (io) "Programmable Driver Input/Output", 33 GPIO1 (io) "General-Purpose Inputs/Outputs", 34 GPIO2 (io) "General-Purpose Inputs/Outputs", 35 GPIO3 (io) "General-Purpose Inputs/Outputs", 36 DVDCAP "Device Supply Voltage  (1.8 V Typical). A 2.2 µF capacitor", 37 GPIO4 (io) "General-Purpose Inputs/Outputs", 38 GPIO5 (io) "General-Purpose Inputs/Outputs", 39 GPIO6 (io) "General-Purpose Inputs/Outputs", 40 GPIO7 (io) "General-Purpose Inputs/Outputs", 41 ID_SDA (io) "Interdevice Communications Bus Data Signal", 42 ID_SCL (io) "Interdevice Communications Bus Clock Signal", 43 SYNC (io) "32.768 kHz Clock Timing Synchronization Input/Output", 44 GPIO8 (io) "General-Purpose Inputs/Outputs", 45 GPIO9 (io) "General-Purpose Inputs/Outputs", 46 SDA (io) "SMBus Data Pin", 47 SCL (io) "SMBus Clock Pin", 48 PDIO6 (io) "Programmable Driver Input/Output", 49 PDIO7 (io) "Programmable Driver Input/Output", 50 PDIO8 (io) "Programmable Driver Input/Output", 51 PDIO9 (io) "Programmable Driver Input/Output", 52 PDIO10 (io) "Programmable Driver Input/Output", 53 PDIO11 (io) "Programmable Driver Input/Output", 54 PDIO12 (io) "Programmable Driver Input/Output", 55 PDIO13 (io) "Programmable Driver Input/Output", 56 PDIO14 (io) "Programmable Driver Input/Output", 57 PDIO15 (io) "Programmable Driver Input/Output", 58 PDIO16 (io) "Programmable Driver Input/Output", 59 VP8 (in) "Low Voltage Inputs to Supply Fault Detectors", 60 VP9 (in) "Low Voltage Inputs to Supply Fault Detectors", 61 VP10 (in) "Low Voltage Inputs to Supply Fault Detectors", 62 VP11 (in) "Low Voltage Inputs to Supply Fault Detectors", 63 VP12 (in) "Low Voltage Inputs to Supply Fault Detectors", 64 VP13 (in) "Low Voltage Inputs to Supply Fault Detectors", EPAD (power) hidden to GND "Exposed Pad. The exposed pad must be soldered to the ground plane"
text: SENS; ADM; 1266

## ADM2682E
designator D?  (value not drawn)
RS-485 Isolated transceiver; Manufacturer: Analog Devices; ManufacturerPartNumber: ADM2682EBRIZ; Type: Микросхема; BCPId: *; Name: *; Package: RI-16-1
footprint SOIC127P1030X265-16N - 12.75lenght (SOIC, 16-Leads, Body 12,75x7,50mm, Pitch 1,27mm, IPC Medium Density)
pins: 1 GND1 (power) "Ground", 2 VCC (power) "External Capacitor Connection for the Regulated VCC Supply", 3 RxD (out) "External Capacitor Connection for the Regulated VCC Supply", 4 ~{RE} (in) "External Capacitor Connection for the Regulated VCC Supply", 5 DE (in) "External Capacitor Connection for the Regulated VCC Supply", 6 TxD (in) "External Capacitor Connection for the Regulated VCC Supply", 7 VCC (power) "External Capacitor Connection for the Regulated VCC Supply", 8 GND1 (power) "Ground", 9 GND2 (power) "Power ground", 10 Visoout (power) "Power ground", 11 Y (out) "Power ground", 12 Z (out) "Power ground", 13 B (in) "Power ground", 14 A (in) "Power ground", 15 Visoin (power) "Power ground", 16 GND2 (power) "Power ground"
text: A/B; 2682

## ADM4850
designator D?  (value not drawn)
5 V Selw-Rate Limited Half-Duplex RS-485/RS-422 Transceivers; ManufacturerPartNumber: ADM4850AR; Manufacturer: Analog Devices; Type: Микросхема; BCPId: *; TU/GOST: *; Package: SOIC-8
footprint SOIC127P600-8M (SOIC, 8-Leads, Body 4.9x3.9mm, Pitch 1.27mm, IPC Low Density)
pins: 1 RO (out) "Receiver Output", 2 ~{RE} (out) "Receiver Output Enable", 3 DE (out) "Driver Output Enable", 4 DI (in) "Driver Input", 5 GND (power), 6 A (io) "Noninverting Receiver Input A/Driver Output A", 7 B (io) "Inverting Receiver Input B/Driver Output B", 8 VCC (power) "5 V Power Supply"
text: A/B

## ADM7150ACPZ-3.3-R7
designator D?  (value not drawn)
800 mA, High PSRR, RF Linear Regulator 4.5 V to 16 V input voltage; Manufacturer: Analog Devices; Type: Микросхема; SymAuthor: Ерешко П.А.; Package: CP-8-11; ManufacturerPartNumber: ADM7150ACPZ-3.3-R7
footprint CP-8-11 (8-Lead Lead Frame Chip Scale Package [LFCSP_WD]   3 mmx3 mm Body, Very Very Thin, Dual Lead)
pins: 1 VREG "Regulated Input Supply Voltage to LDO Amplifier", 2 VOUT (power) "Regulated Output Voltage", 3 BYP "Low Noise Bypass Capacitor", 4 GND (power) "Ground", 5 RSNS "Reference Sense", 6 REF "Low Noise Reference Voltage Output", 7 EN (in) "Enable", 8 VIN (power) "Regulator Input Supply Voltage", EPAD EP (power) hidden to GND "Ground"
text: *STU; 7150

## ADM7150ACPZ-5.0-R7
designator D?  (value not drawn)
800 mA, High PSRR, RF Linear Regulator 4.5 V to 16 V input voltage; Manufacturer: Analog Devices; Type: Микросхема; SymAuthor: Ерешко П.А.; Package: CP-8-11; ManufacturerPartNumber: ADM7150ACPZ-5.0-R7
footprint CP-8-11 (8-Lead Lead Frame Chip Scale Package [LFCSP_WD]   3 mmx3 mm Body, Very Very Thin, Dual Lead)
pins: 1 VREG "Regulated Input Supply Voltage to LDO Amplifier", 2 VOUT (power) "Regulated Output Voltage", 3 BYP "Low Noise Bypass Capacitor", 4 GND (power) "Ground", 5 RSNS "Reference Sense", 6 REF "Low Noise Reference Voltage Output", 7 EN (in) "Enable", 8 VIN (power) "Regulator Input Supply Voltage", EPAD EP (power) hidden to GND "Ground"
text: *STU; 7150

## ADM7154ACPZ-1.8-R7
designator D?  (value not drawn)
600 mA, High PSRR, RF Linear Regulator; Manufacturer: Analog Devices; Type: Микросхема; SymAuthor: Ерешко П.А.; Package: CP-8-21; ManufacturerPartNumber: ADM7154ACPZ-1.8-R7
footprint QFN50P300X300X80_HS-9N (QFN, 8-Leads, Body 3,00x3,00mm, Pitch 0,50mm, Thermal Pad 2,54x1,70mm, IPC Medium Density)
pins: 1 VREG "Regulated Input Supply Voltage to LDO Amplifier", 2 VOUT (power) "Regulated Output Voltage", 3 BYP "Low Noise Bypass Capacitor", 4 GND (power) "Ground", 5 RSNS "Reference Sense", 6 REF "Low Noise Reference Voltage Output", 7 EN (in) "Enable", 8 VIN (power) "Regulator Input Supply Voltage", EPAD EP (power) hidden to GND "Ground"
text: *STU; 7154

## ADM7154ACPZ-3.3-R7
designator D?  (value not drawn)
600 mA, High PSRR, RF Linear Regulator; Manufacturer: Analog Devices; Type: Микросхема; SymAuthor: Ерешко П.А.; Package: CP-8-21; ManufacturerPartNumber: ADM7154ACPZ-3.3-R7
footprint QFN50P300X300X80_HS-9N (QFN, 8-Leads, Body 3,00x3,00mm, Pitch 0,50mm, Thermal Pad 2,54x1,70mm, IPC Medium Density)
pins: 1 VREG "Regulated Input Supply Voltage to LDO Amplifier", 2 VOUT (power) "Regulated Output Voltage", 3 BYP "Low Noise Bypass Capacitor", 4 GND (power) "Ground", 5 RSNS "Reference Sense", 6 REF "Low Noise Reference Voltage Output", 7 EN (in) "Enable", 8 VIN (power) "Regulator Input Supply Voltage", EPAD EP (power) hidden to GND "Ground"
text: *STU; 7154

## ADM7170ACPZ-3.3-R7
designator D?  (value not drawn)
6.5 V, 500 mA, Ultralow Noise, High PSRR, Fast Transient Response CMOS LDO; Manufacturer: Analog Devices; Type: Микросхема; Package: CP-8-21; ManufacturerPartNumber: ADM7170ACPZ-3.3-R7
footprint QFN50P300X300X80_HS-9N (QFN, 8-Leads, Body 3,00x3,00mm, Pitch 0,50mm, Thermal Pad 2,54x1,70mm, IPC Medium Density)
pins: 1 VOUT (power) "Regulated Output Voltage", 2 VOUT (power) "Regulated Output Voltage", 3 SENS "Sense Input. Connect this pin as close as possible to the load for best load regulation.", 4 SS "Soft Start", 5 EN (in) "Regulator Enable. Drive EN high to turn on the regulator", 6 GND (power) "Ground", 7 VIN (power) "Ground", 8 VIN (power) "Ground", EPAD EP (power) hidden to GND "Ground"
text: *STU; 7170

## ADM7170ACPZ-5.0-R7
designator D?  (value not drawn)
6.5 V, 500 mA, Ultralow Noise, High PSRR, Fast Transient Response CMOS LDO; Manufacturer: Analog Devices; Type: Микросхема; Package: CP-8-21; ManufacturerPartNumber: ADM7170ACPZ-5.0-R7
footprint QFN50P300X300X80_HS-9N (QFN, 8-Leads, Body 3,00x3,00mm, Pitch 0,50mm, Thermal Pad 2,54x1,70mm, IPC Medium Density)
pins: 1 VOUT (power) "Regulated Output Voltage", 2 VOUT (power) "Regulated Output Voltage", 3 SENS "Sense Input. Connect this pin as close as possible to the load for best load regulation.", 4 SS "Soft Start", 5 EN (in) "Regulator Enable. Drive EN high to turn on the regulator", 6 GND (power) "Ground", 7 VIN (power) "Ground", 8 VIN (power) "Ground", EPAD EP (power) hidden to GND "Ground"
text: *STU; 7170

## ADM7171ACPZ
designator D?, comment ADM7171ACPZ-X.X.-R7  (value not drawn)
6.5 V, 1 A, Ultralow Noise, High PSRR,  Fast Transient Response CMOS LDO; Manufacturer: Analog Devices; Type: Микросхема; BCPId: *; Name: *; Package: CP-8-21; ManufacturerPartNumber: ADM7171ACPZ-X.X.-R7
footprint QFN50P300X300X80_HS-9N (QFN, 8-Leads, Body 3,00x3,00mm, Pitch 0,50mm, Thermal Pad 2,54x1,70mm, IPC Medium Density)
pins: 1 VOUT (power) "Regulated Output Voltage", 2 VOUT (power) "Regulated Output Voltage", 3 SENS (power) "Sense Input", 4 SS "Soft Start", 5 EN (power) "Enable Input", 6 GND (power), 7 VIN (power) "Regulator Input Supply", 8 VIN (power) "Regulator Input Supply", EPAD (power) hidden to GND "The exposed GND pad"
text: *STU; ADM; 7171

## ADM8660ARZ
designator D?  (value not drawn)
CMOS Switched-Capacitor  Voltage Converters; Manufacturer: Analog Devices; Type: Микросхема; SymAuthor: Блохин В.А.; BCPId: *; Name: *; Package: R-8; ManufacturerPartNumber: ADM8660ARZ
footprint SOIC127P600-8M (SOIC, 8-Leads, Body 4.9x3.9mm, Pitch 1.27mm, IPC Low Density)
pins: 1 FC (power) "Frequency Control Input", 2 CAP+ (power) "Positive Charge-Pump Capacitor Termina", 3 GND (power), 4 CAP- (power) "Negative Charge-Pump Capacitor Terminal", 5 OUT (power) "Output, Negative Voltage", 6 LV (power) "Low Voltage Operation Input", 7 SD (power) "Shutdown", 8 V+ (power) "Positive Power Supply Input"
text: *STU; ADM; 8660

## ADP150AUJZ
designator D?  (value not drawn)
150 mA CMOS Linear Regulator; Manufacturer: Analog Devices; Type: Микросхема; SymAuthor: Календарова В.; BCPId: *; Package: UJ-5; Tolerance: *; ManufacturerPartNumber: ADP150AUJZ
footprint SOT95P280X100-5N (SOT23, 5-Leads, Body 2,90x2,80mm, Pitch 0,95mm, IPC Medium Density)
pins: 1 Vin (in), 2 GND (power), 3 EN (in), 4 NC hidden, 5 Vout (power)
text: STU

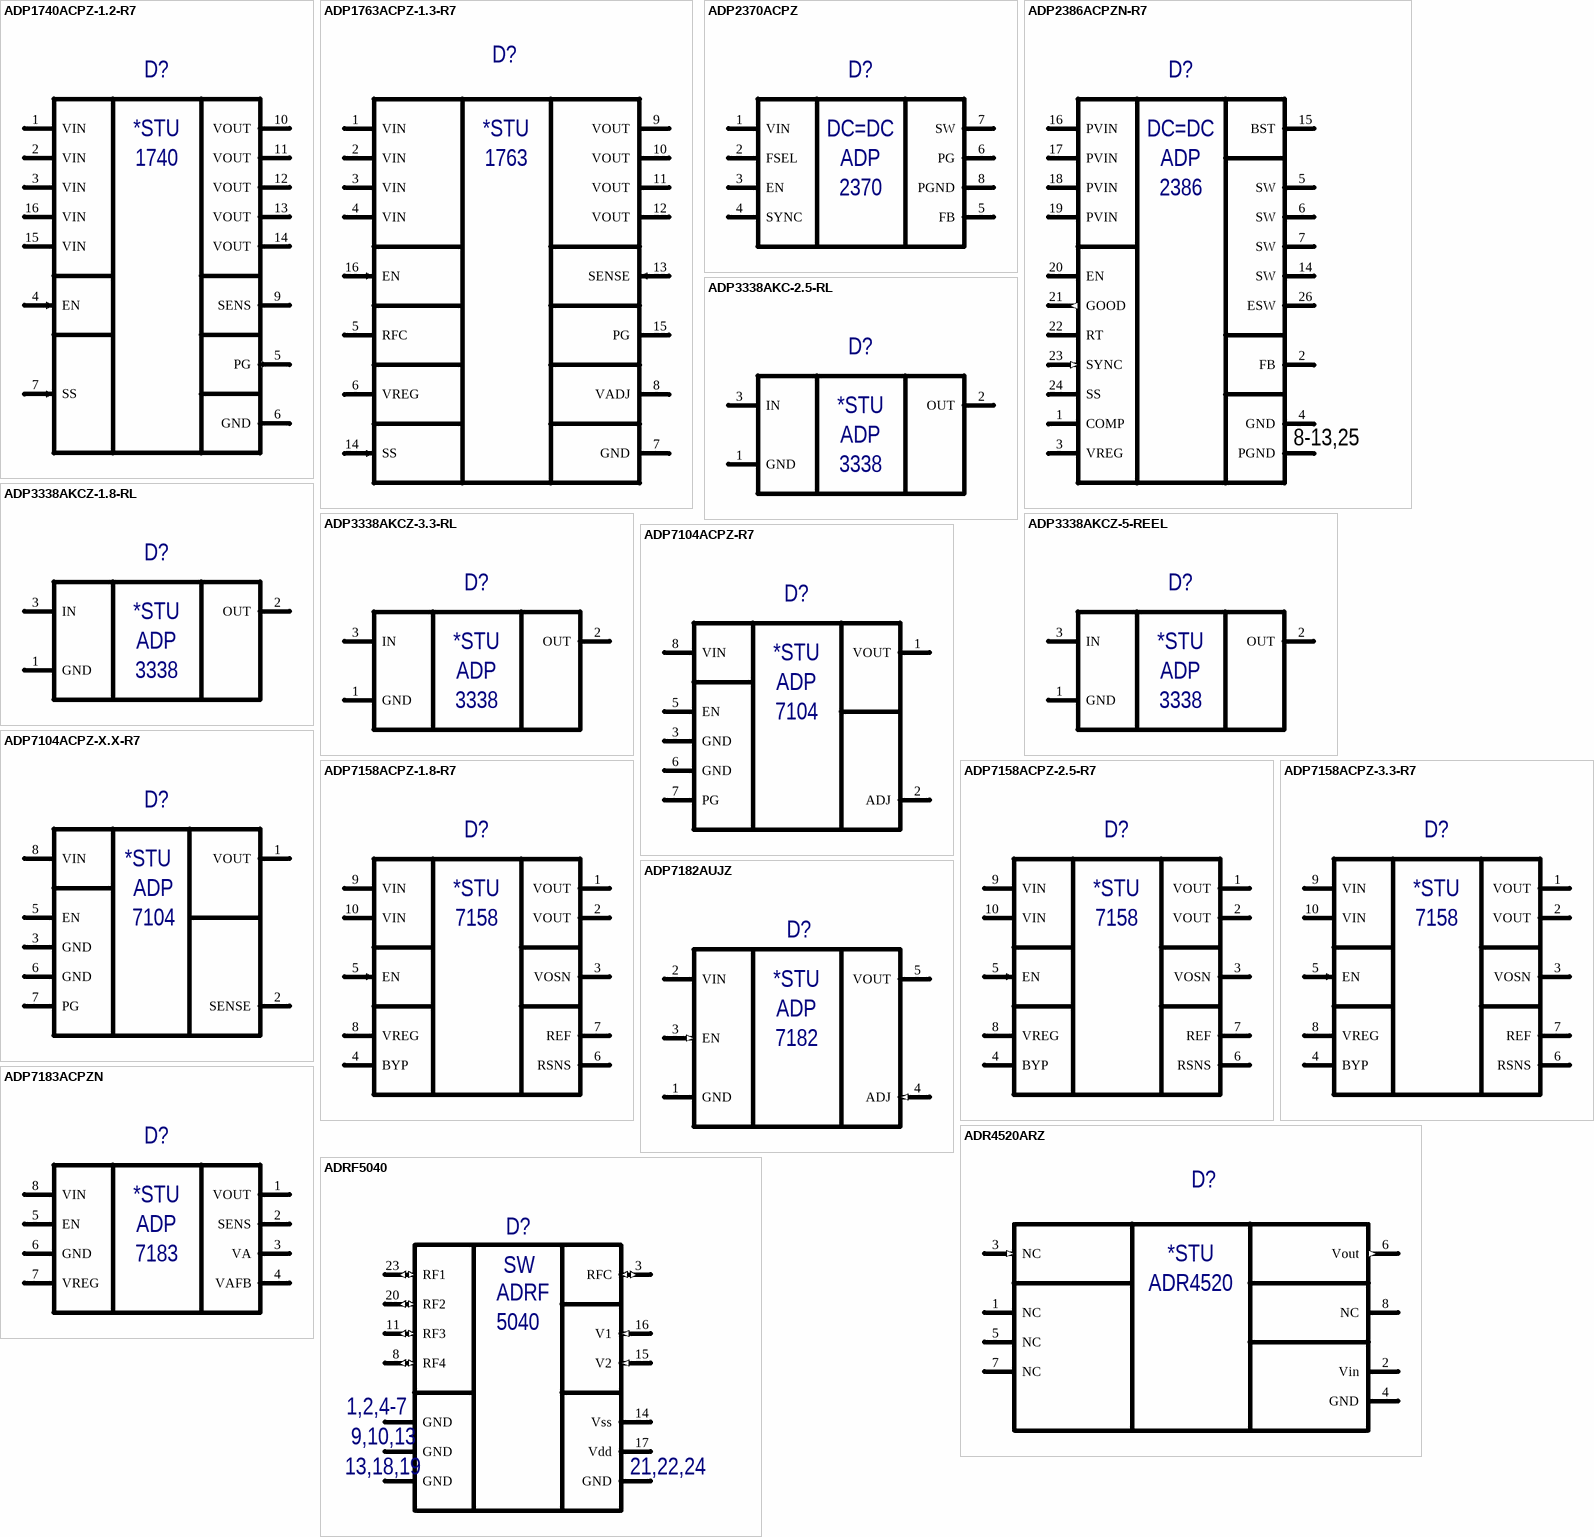
[diagram p14: symbols ADP1740ACPZ-1.2-R7 to ADRF5040]

## ADP1740ACPZ-1.2-R7
designator D?  (value not drawn)
6.5 V, 500 mA, Ultralow Noise, High PSRR, RF Linear Regulator; Manufacturer: Analog Devices; Type: Микросхема; Package: CP-16-23; ManufacturerPartNumber: ADP1740ACPZ-1.2-R7
footprint QFN65P400X400X80_HS-17N (QFN, 16-Leads, Body 4,00x4,00mm, Pitch 0,65mm, Thermal Pad 2,10x2,10mm, IPC Medium Density)
pins: 1 VIN (power) "Regulator Input Supply Voltage", 2 VIN (power) "Regulator Input Supply Voltage", 3 VIN (power) "Regulator Input Supply Voltage", 4 EN (in) "Enable", 5 PG (out) "Power-Good", 6 GND (power) "Ground", 7 SS (in) "Soft Start", 8 NC hidden "Not Connected.", 9 SENS "Sense Input", 10 VOUT (power) "Regulated Output Voltage", 11 VOUT (power) "Regulated Output Voltage", 12 VOUT (power) "Regulated Output Voltage", 13 VOUT (power) "Regulated Output Voltage", 14 VOUT (power) "Regulated Output Voltage", 15 VIN (power) "Regulator Input Supply Voltage", 16 VIN (power) "Regulator Input Supply Voltage", EPAD EP (power) hidden to GND "Ground"
text: *STU; 1740

## ADP1763ACPZ-1.3-R7
designator D?  (value not drawn)
3 A, Low VIN, Low Noise, CMOS Linear Regulator; Manufacturer: Analog Devices; Type: Микросхема; SymAuthor: Ерешко П.А.; Package: CP-16-22; ManufacturerPartNumber: ADP1763ACPZ-1.3-R7
footprint QFN50P300X300X80_HS175X175-17N (QFN, 16-Leads, Body 3,00x3,00mm, Pitch 0,50mm, Thermal Pad 1,75x1,75mm, IPC Medium Density)
pins: 1 VIN (power) "Power Input", 2 VIN (power) "Power Input", 3 VIN (power) "Power Input", 4 VIN (power) "Power Input", 5 RFC "Reference Filter Capacitor. Connect a 1 µF capacitor from the REFCAP pin to ground", 6 VREG "Regulated Input Supply to LDO Amplifier. Bypass VREG to GND with a 1 µF or greater capacitor.", 7 GND (power) "Power Ground", 8 VADJ "Adjustable Voltage Pin for the Adjustable Output Option", 9 VOUT (power) "Power Output", 10 VOUT (power) "Power Output", 11 VOUT (power) "Power Output", 12 VOUT (power) "Power Output", 13 SENSE (in) "Sense Input", 14 SS (in) "Soft Start Pin", 15 PG (oc) "Power Good Output", 16 EN (in) "Enable Input", EPAD (power) hidden to GND "Exposed Pad. The exposed pad is electrically connected to GND."
text: *STU; 1763

## ADP2370ACPZ
designator D?, comment ADP2370ACPZ-X.X-R7  (value not drawn)
High Voltage, 1.2 MHz/600 kHz, 800 mA, Low Quiescent Current Buck Regulator; Manufacturer: Analog Devices; Type: Микросхема; BCPId: *; Name: *; Package: CP-8-5; ManufacturerPartNumber: ADP2370ACPZ-X.X-R7
footprint QFN50P300X300X80_HS-9N (QFN, 8-Leads, Body 3,00x3,00mm, Pitch 0,50mm, Thermal Pad 2,54x1,70mm, IPC Medium Density)
pins: 1 VIN (power) "Power Input", 2 FSEL (power) "Frequency Select", 3 EN (power) "Enable", 4 SYNC (power) "Synchronize", 5 FB (power) "Feedback", 6 PG (power) "Power Good", 7 SW (power) "Switch Node Output", 8 PGND (power) "Power Ground", EPAD (power) hidden to GND "Exposed Pad"
text: DC=DC; ADP; 2370

## ADP2386ACPZN-R7
designator D?  (value not drawn)
20 V, 6 A, Synchronous Step-Down   DC-to-DC Regulator; Manufacturer: Analog Devices; Type: Микросхема; SymAuthor: Блохин В.А.; BCPId: *; Name: *; Package: CP-24-12; ManufacturerPartNumber: ADP2386ACPZN-R7
footprint QFN50P400X400X80_HS-26N (QFN, 24-Leads, Body 4,00x4,00mm, Pitch 0,50mm, Thermal Pad 2,8x1,5mm, Thermal Pad 2,8x1,05mm, IPC Medium Density)
pins: 1 COMP (power) "Error Amplifier Output", 2 FB (power) "Feedback Voltage Sense Input", 3 VREG (power) "Output of the Internal 8 V Regulator", 4 GND (power) "Analog Ground", 5 SW (power) "Switch Node Output", 6 SW (power) "Switch Node Output", 7 SW (power) "Switch Node Output", 8 PGND (power) "Power Ground", 9 PGND (power) hidden to GND "Power Ground", 10 PGND (power) hidden to GND "Power Ground", 11 PGND (power) hidden to GND "Power Ground", 12 PGND (power) hidden to GND "Power Ground", 13 PGND (power) hidden to GND "Power Ground", 14 SW (power) "Switch Node Output", 15 BST (power) "Supply Rail for the High-Side Gate Drive", 16 PVIN (power) "Power Input", 17 PVIN (power) "Power Input", 18 PVIN (power) "Power Input", 19 PVIN (power) "Power Input", 20 EN (power) "Precision Enable Pin", 21 GOOD (out) "Power-Good Output", 22 RT (power) "Frequency Setting", 23 SYNC (in) "Synchronization Input", 24 SS "Soft Start Control", 25 EGND (power) hidden to GND "The exposed GND pad", 26 ESW (power) "The exposed SW pad"
text: DC=DC; ADP; 2386; 8-13,25

## ADP3338AKC-2.5-RL
designator D?  (value not drawn)
High Accuracy, Ultralow IQ, 1 A, anyCAP ® Low Dropout Regulator; Manufacturer: Analog Devices; Type: Микросхема; SymAuthor: Семенов В.С.; BCPId: *; Name: *; Package: 3-Lead SOT-223; ManufacturerPartNumber: ADP3338AKC-2.5-RL
footprint SOT230P700X180-4N (SOT223, 4-Leads, Body 6,7x7,3mm (max), Pitch 2,30mm, IPC Medium Density)
pins: 1 GND (power) "Ground", 2 OUT (power) "Output", 3 IN (power) "Input"
text: *STU; ADP; 3338

## ADP3338AKCZ-1.8-RL
designator D?  (value not drawn)
High Accuracy, Ultralow IQ, 1 A, anyCAP ® Low Dropout Regulator; Manufacturer: Analog Devices; Type: Микросхема; BCPId: *; Name: *; Package: SOT-223; ManufacturerPartNumber: ADP3338AKCZ-1.8-RL
footprint SOT230P700X180-4N (SOT223, 4-Leads, Body 6,7x7,3mm (max), Pitch 2,30mm, IPC Medium Density)
pins: 1 GND (power) "Ground", 2 OUT (power) "Output", 3 IN (power) "Input"
text: *STU; ADP; 3338

## ADP3338AKCZ-3.3-RL
designator D?  (value not drawn)
High Accuracy, Ultralow IQ, 1 A, anyCAP ® Low Dropout Regulator; Manufacturer: Analog Devices; Type: Микросхема; BCPId: *; Name: *; Package: SOT-223; ManufacturerPartNumber: ADP3338AKCZ-3.3-RL
footprint SOT230P700X180-4N (SOT223, 4-Leads, Body 6,7x7,3mm (max), Pitch 2,30mm, IPC Medium Density)
pins: 1 GND (power) "Ground", 2 OUT (power) "Output", 3 IN (power) "Input"
text: *STU; ADP; 3338

## ADP3338AKCZ-5-REEL
designator D?  (value not drawn)
High Accuracy, Ultralow IQ, 1 A, anyCAP ® Low Dropout Regulator; Manufacturer: Analog Devices; Type: Микросхема; BCPId: *; Name: *; Package: SOT-223; ManufacturerPartNumber: ADP3338AKCZ-5-REEL
footprint SOT230P700X180-4N (SOT223, 4-Leads, Body 6,7x7,3mm (max), Pitch 2,30mm, IPC Medium Density)
pins: 1 GND (power) "Ground", 2 OUT (power) "Output", 3 IN (power) "Input"
text: *STU; ADP; 3338

## ADP7104ACPZ-R7
designator D?  (value not drawn)
20 V, 500 mA, Low Noise, CMOS LDO; Manufacturer: Analog Devices; Type: Микросхема; SymAuthor: Блохин В.А.; BCPId: *; Name: *; Package: CP-8-5; ManufacturerPartNumber: ADP7104ACPZ-R7
footprint QFN50P300X300X80_HS-9N (QFN, 8-Leads, Body 3,00x3,00mm, Pitch 0,50mm, Thermal Pad 2,54x1,70mm, IPC Medium Density)
pins: 1 VOUT (power) "Regulated Output Voltage", 2 ADJ (power) "Adjust Input", 3 GND (power), 4 NC hidden "Do Not Connect to this Pin", 5 EN (power) "Enable Input", 6 GND (power), 7 PG  (power) "Power Good", 8 VIN (power) "Regulator Input Supply", EPAD (power) hidden to GND "The exposed GND pad"
text: *STU; ADP; 7104

## ADP7104ACPZ-X.X-R7
designator D?  (value not drawn)
20 V, 500 mA, Low Noise, CMOS LDO; Manufacturer: Analog Devices; Type: Микросхема; SymAuthor: Блохин В.А.; BCPId: *; Name: *; Package: CP-8-5; ManufacturerPartNumber: ADP7104ACPZ-X.X-R7
footprint QFN50P300X300X80_HS-9N (QFN, 8-Leads, Body 3,00x3,00mm, Pitch 0,50mm, Thermal Pad 2,54x1,70mm, IPC Medium Density)
pins: 1 VOUT (power) "Regulated Output Voltage", 2 SENSE (power) "Adjust Input", 3 GND (power), 4 NC hidden "Do Not Connect to this Pin", 5 EN (power) "Enable Input", 6 GND (power), 7 PG  (power) "Power Good", 8 VIN (power) "Regulator Input Supply", EPAD (power) hidden to GND "The exposed GND pad"
text: *STU; ADP; 7104

## ADP7158ACPZ-1.8-R7
designator D?  (value not drawn)
2 A, Ultralow Noise, High PSRR, RF Linear Regulator; Manufacturer: Analog Devices; Type: Микросхема; SymAuthor: Иванова И.С.; Package: CP-10-9; ManufacturerPartNumber: ADP7158ACPZ-1.8-R7
footprint CP-10-9 (8-10-Lead Lead Frame Chip Scale Package [LFCSP]   3 mmx3 mm Body and 0.75 mm Package Height)
pins: 1 VOUT (power) "Regulated Output Voltage", 2 VOUT (power) "Regulated Output Voltage", 3 VOSN "Output Sense", 4 BYP "Low Noise Bypass Capacitor", 5 EN (in) "Enable", 6 RSNS "Reference Sense", 7 REF "Low Noise Reference Voltage Output", 8 VREG "Regulated Input Supply Voltage to LDO Amplifier", 9 VIN (power) "Regulator Input Supply Voltage", 10 VIN (power) "Regulator Input Supply Voltage", EPAD EP (power) hidden to GND "Ground"
text: *STU; 7158

## ADP7158ACPZ-2.5-R7
designator D?  (value not drawn)
2 A, Ultralow Noise, High PSRR, RF Linear Regulator; Manufacturer: Analog Devices; Type: Микросхема; SymAuthor: Ерешко П.А.; Package: CP-10-9; ManufacturerPartNumber: ADP7158ACPZ-2.5-R7
footprint CP-10-9 (8-10-Lead Lead Frame Chip Scale Package [LFCSP]   3 mmx3 mm Body and 0.75 mm Package Height)
pins: 1 VOUT (power) "Regulated Output Voltage", 2 VOUT (power) "Regulated Output Voltage", 3 VOSN "Output Sense", 4 BYP "Low Noise Bypass Capacitor", 5 EN (in) "Enable", 6 RSNS "Reference Sense", 7 REF "Low Noise Reference Voltage Output", 8 VREG "Regulated Input Supply Voltage to LDO Amplifier", 9 VIN (power) "Regulator Input Supply Voltage", 10 VIN (power) "Regulator Input Supply Voltage", EPAD EP (power) hidden to GND "Ground"
text: *STU; 7158

## ADP7158ACPZ-3.3-R7
designator D?  (value not drawn)
2 A, Ultralow Noise, High PSRR, RF Linear Regulator; Manufacturer: Analog Devices; Type: Микросхема; SymAuthor: Иванова И.С.; Package: CP-10-9; ManufacturerPartNumber: ADP7158ACPZ-3.3-R7
footprint CP-10-9 (8-10-Lead Lead Frame Chip Scale Package [LFCSP]   3 mmx3 mm Body and 0.75 mm Package Height)
pins: 1 VOUT (power) "Regulated Output Voltage", 2 VOUT (power) "Regulated Output Voltage", 3 VOSN "Output Sense", 4 BYP "Low Noise Bypass Capacitor", 5 EN (in) "Enable", 6 RSNS "Reference Sense", 7 REF "Low Noise Reference Voltage Output", 8 VREG "Regulated Input Supply Voltage to LDO Amplifier", 9 VIN (power) "Regulator Input Supply Voltage", 10 VIN (power) "Regulator Input Supply Voltage", EPAD EP (power) hidden to GND "Ground"
text: *STU; 7158

## ADP7182AUJZ
designator D?, comment ADP7182AUJZ-X.X-R7  (value not drawn)
–28 V, −200 mA, Low Noise,  Linear Regulator; Manufacturer: Analog Devices; Type: Микросхема; BCPId: *; Name: *; Package: TSOT; ManufacturerPartNumber: ADP7182AUJZ-X.X-R7
footprint SOT95P280X100-5N (SOT23, 5-Leads, Body 2,90x2,80mm, Pitch 0,95mm, IPC Medium Density)
pins: 1 GND (power), 2 VIN (power) "Regulator Input Supply", 3 EN (in) "Enable", 4 ADJ (in) "Adjustable Input", 5 VOUT (power) "Regulated Output Voltage"
text: *STU; ADP; 7182